# Altium schematic symbol library L7809CV.SchLib: 1 symbol
Pins are listed as number, name and electrical type; pins without a type are passive.

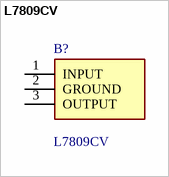
[diagram p0: symbol L7809CV]

## L7809CV
designator B?
Standard Regulator 9V 1.5A STMicroelectronics L7809CV, Single Linear Voltage Regulator, 1.5A 9 V, 2%, 3-Pin TO-220; Geometry.Height: 4.6mm; Mouser Part Number: 511-L7809CV; Mouser Price/Stock: https://www.mouser.co.uk/ProductDetail/STMicroelectronics/L7809CV?qs=sps7W%2FwBcGH358Eg%2FiFhSA%3D%3D; Manufacturer_Name: STMicroelectronics; Manufacturer_Part_Number: L7809CV; Datasheet Link: http://www.st.com/web/en/resource/technical/document/datasheet/CD00000444.pdf
footprint TO255P460X1020X2008-3P
pins: 1 INPUT, 2 GROUND, 3 OUTPUT